# Altium footprint library Jack MCX50.PcbLib: 1 footprints
Each footprint in its own frame and in the unit in brackets; x right, y up, seen from the top. Pads: shape width x height; smd on the part's side, far side on the other; paste and mask are expansions set on the pad; w line width, h text height; cw(c..) or ccw(c..) is an arc to the next point about the centre after c.
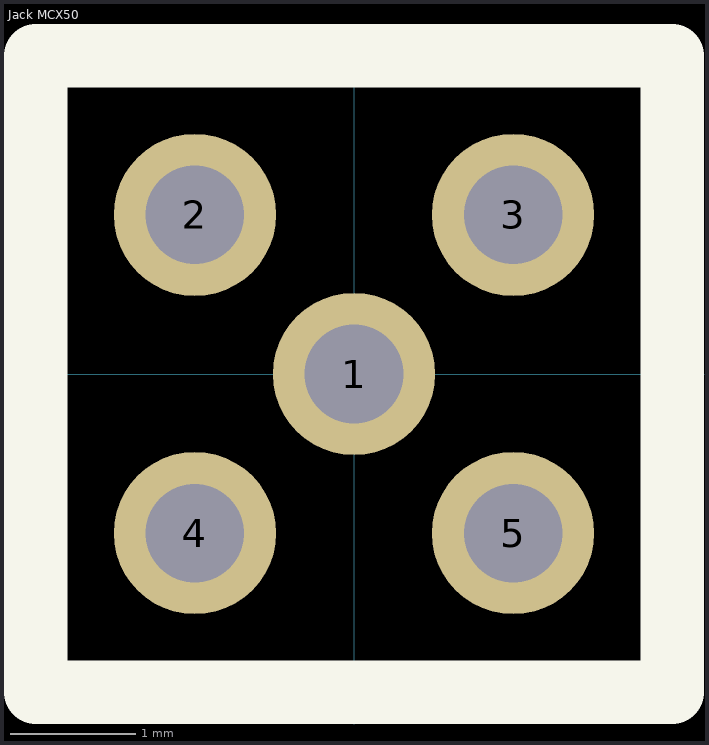
[diagram p0: the footprint, top view; thin cyan lines are the x and y axes]

## Jack MCX50 [mil] "Straight Jack Receptacle"
height 220.87
pads (5):
  round 51 hole 31: 1(0,0) 2(-50,50) 3(50,50) 4(-50,-50) 5(50,-50)
TopOverlay:
  lines w20: -100,-100 100,-100 100,100 -100,100 -100,-100
3D body: height 175.6, standoff -114.36, extent -68.64,-70.75 69.15,67.05